# Altium footprint library DPST.PcbLib: 1 footprints
Each footprint in its own frame and in the unit in brackets; x right, y up, seen from the top. Pads: shape width x height; smd on the part's side, far side on the other; paste and mask are expansions set on the pad; w line width, h text height; cw(c..) or ccw(c..) is an arc to the next point about the centre after c.
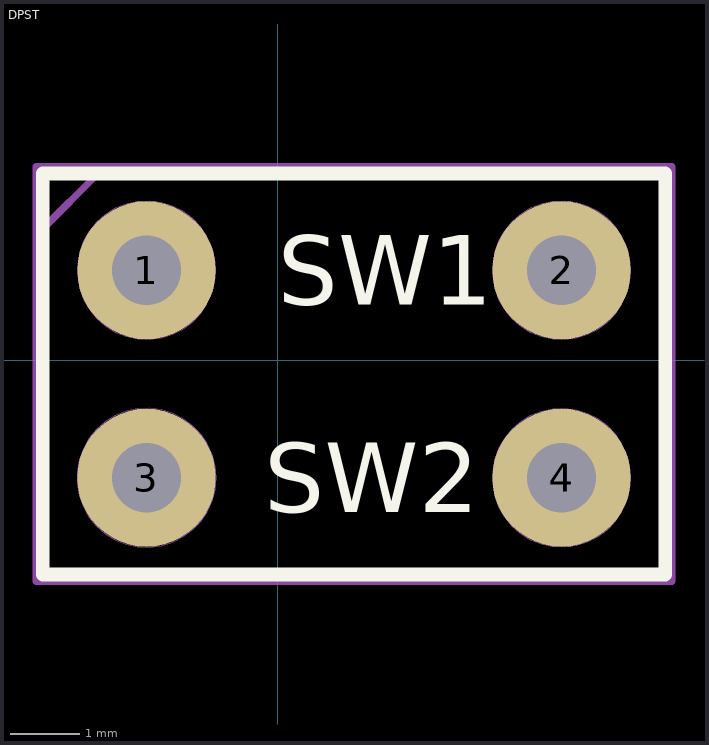
[diagram p0: the footprint, top view; thin cyan lines are the x and y axes]

## DPST [mm]
pads (4):
  round 2 hole 1: 1(-1.9,1.3) 2(4.1,1.3) 3(-1.9,-1.7) 4(4.1,-1.7)
Top Overlay:
  lines w0.2: -3.4,1.9 -3.4,2.7 5.6,2.7 5.6,-3.1 -3.4,-3.1 -3.4,2.2
  text "SW1" at 0,0.8 h1
  text "SW2" at -0.2,-2.2 h1
Mechanical 3:
  lines w0.1: -3.4,-0.9 -3.4,1.9 -2.6,2.7 5.6,2.7 5.6,-3.1 -3.4,-3.1 -3.4,-0.2
Mechanical 5:
  circle w0.01: c-1.9,1.3 r1
  circle w0.01: c4.1,1.3 r1
  circle w0.01: c-1.9,-1.7 r1.005
  circle w0.01: c4.1,-1.7 r1
  lines w0.01: -3.4,-2.5 -3.4,2.7 5.6,2.7 5.6,-3.1 -3.4,-3.1 -3.4,-1.3
Mechanical 7:
  lines w0.1: -3.5,-3.2 5.7,-3.2 5.7,2.8 -3.5,2.8 -3.5,-0.9 -3.5,-3.2
Mechanical 9:
  text "'.Designator'" at -4,-0.3 h1
3D body: height 1.04, standoff 0, extent -3.5,-3.2 5.7,2.8